# EAGLE library part RFM9X (library SparkFun-RF)
RFM95/96/97/98 The RFM95/96/97/98(W) transceivers feature the LoRaTM long range modem that provides ultra-long range spread spectrum communication and high interference immunity whilst minimising current consumption. These devices also support high performance (G)FSK modes for systems including WMBus, IEEE802.15.4g. The RFM95/96/97/98(W) deliver exceptional phase noise, selectivity, receiver linearity and IIP3 for significantly lower current consumption than competing devices Datasheet <http://www.hoperf.com/upload/rf/RFM95_96_97_98W.pdf>
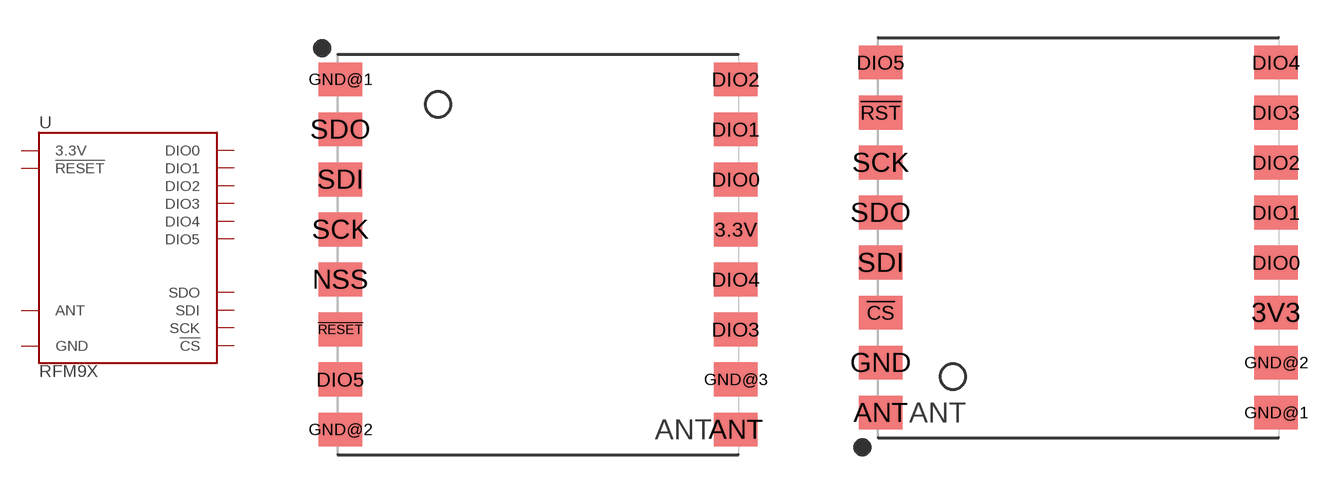
[diagram p30: symbol with the pads of RFM95; footprints RFM95, RFM97]

Designator prefix U

## RFM9XRFM95 (PROD_ID: IC-13959)  [RFM95]
3.3V  3.3V
!RESET  !RESET
ANT  ANT
DIO0  DIO0
DIO1  DIO1
DIO2  DIO2
DIO3  DIO3
DIO4  DIO4
DIO5  DIO5
GND@1  GND
GND@2  GND
GND@3  GND
NSS  !CS!
SCK  SCK
SDI  SDI
SDO  SDO

## RFM9XRFM97 (PROD_ID: IC-15944)  [RFM97]
3V3  3.3V
!CS!  !CS!
!RST  !RESET
ANT  ANT
DIO0  DIO0
DIO1  DIO1
DIO2  DIO2
DIO3  DIO3
DIO4  DIO4
DIO5  DIO5
GND  GND
GND@1  GND
GND@2  GND
SCK  SCK
SDI  SDI
SDO  SDO

## Footprint RFM95 (pad centres in mm)
RFM95/96/97/98 The RFM95/96/97/98(W) transceivers feature the LoRaTM long range modem that provides ultra-long range spread spectrum communication and high interference immunity whilst minimising current consumption. Datasheet <http://www.hoperf.com/upload/rf/RFM95_96_97_98W.pdf>
smd 1.75 x 1.35: 3.3V 7.9,1; !RESET -7.9,-3; ANT 7.9,-7; DIO0 7.9,3; DIO1 7.9,5; DIO2 7.9,7; DIO3 7.9,-3; DIO4 7.9,-1; DIO5 -7.9,-5; GND@1 -7.9,7; GND@2 -7.9,-7; GND@3 7.9,-5; NSS -7.9,-1; SCK -7.9,1; SDI -7.9,3; SDO -7.9,5

## Footprint RFM97 (pad centres in mm)
smd 1.75 x 1.35: 3V3 7.9,-3; !CS! -7.9,-3; !RST -7.9,5; ANT -7.9,-7; DIO0 7.9,-1; DIO1 7.9,1; DIO2 7.9,3; DIO3 7.9,5; DIO4 7.9,7; DIO5 -7.9,7; GND -7.9,-5; GND@1 7.9,-7; GND@2 7.9,-5; SCK -7.9,3; SDI -7.9,-1; SDO -7.9,1